# EAGLE library part FRAM (library fram)
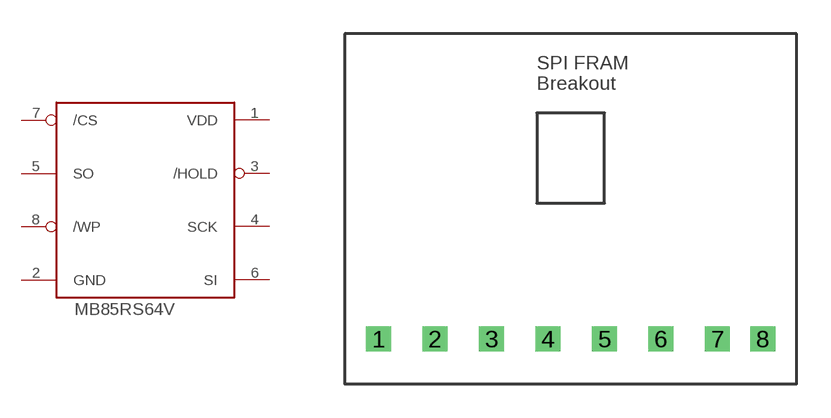
[diagram p0: symbol with the pads of FRAMFT; footprint FRAMFT]

Designator prefix -

## FRAM  [FRAMFT]
1  VDD
2  GND  pwr
3  /HOLD
4  SCK
5  SO
6  SI
7  /CS
8  /WP

## Footprint FRAMFT (pad centres in mm)
drill 0.6 square: 1 1.5,2; 2 4,2; 3 6.5,2; 4 9,2; 5 11.5,2; 6 14,2; 7 16.5,2; 8 18.5,2